# Altium schematic symbol library USB5744.SchLib: 1 symbol
Pins are listed as number, name and electrical type; pins without a type are passive.

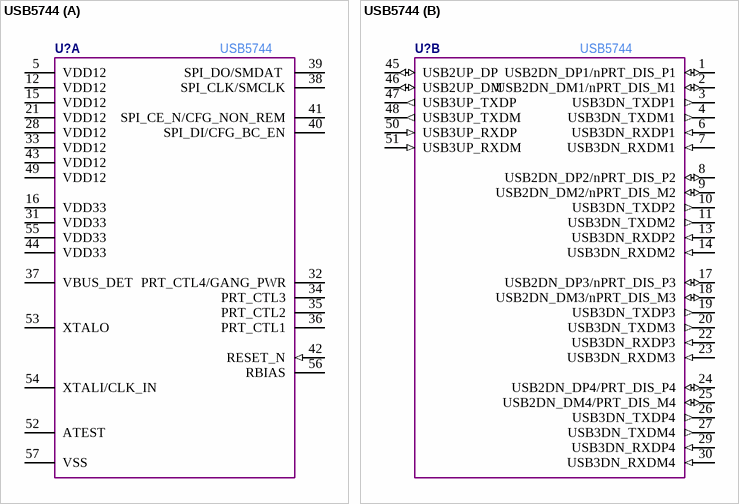
[diagram p0: symbol USB5744]

## USB5744
designator U?  Manufacturer Part Number: USB5744  (hidden comment: *)
part A pins: 5 VDD12, 12 VDD12, 15 VDD12, 16 VDD33, 21 VDD12, 28 VDD12, 31 VDD33, 32 PRT_CTL4/GANG_PWR, 33 VDD12, 34 PRT_CTL3, 35 PRT_CTL2, 36 PRT_CTL1, 37 VBUS_DET, 38 SPI_CLK/SMCLK, 39 SPI_DO/SMDAT , 40 SPI_DI/CFG_BC_EN, 41 SPI_CE_N/CFG_NON_REM, 42 RESET_N (in), 43 VDD12, 44 VDD33, 49 VDD12, 52 ATEST, 53 XTALO, 54 XTALI/CLK_IN, 55 VDD33, 56 RBIAS, 57 VSS
part B pins: 1 USB2DN_DP1/nPRT_DIS_P1 (io), 2 USB2DN_DM1/nPRT_DIS_M1 (io), 3 USB3DN_TXDP1 (out), 4 USB3DN_TXDM1 (out), 6 USB3DN_RXDP1 (in), 7 USB3DN_RXDM1 (in), 8 USB2DN_DP2/nPRT_DIS_P2 (io), 9 USB2DN_DM2/nPRT_DIS_M2 (io), 10 USB3DN_TXDP2 (out), 11 USB3DN_TXDM2 (out), 13 USB3DN_RXDP2 (in), 14 USB3DN_RXDM2 (in), 17 USB2DN_DP3/nPRT_DIS_P3 (io), 18 USB2DN_DM3/nPRT_DIS_M3 (io), 19 USB3DN_TXDP3 (out), 20 USB3DN_TXDM3 (out), 22 USB3DN_RXDP3 (in), 23 USB3DN_RXDM3 (in), 24 USB2DN_DP4/PRT_DIS_P4 (io), 25 USB2DN_DM4/PRT_DIS_M4 (io), 26 USB3DN_TXDP4 (out), 27 USB3DN_TXDM4 (out), 29 USB3DN_RXDP4 (in), 30 USB3DN_RXDM4 (in), 45 USB2UP_DP (io), 46 USB2UP_DM (io), 47 USB3UP_TXDP (out), 48 USB3UP_TXDM  (out), 50 USB3UP_RXDP (in), 51 USB3UP_RXDM (in)